# Altium schematic symbol library batteries.SchLib: 10 symbols
Pins are listed as number, name and electrical type; pins without a type are passive.

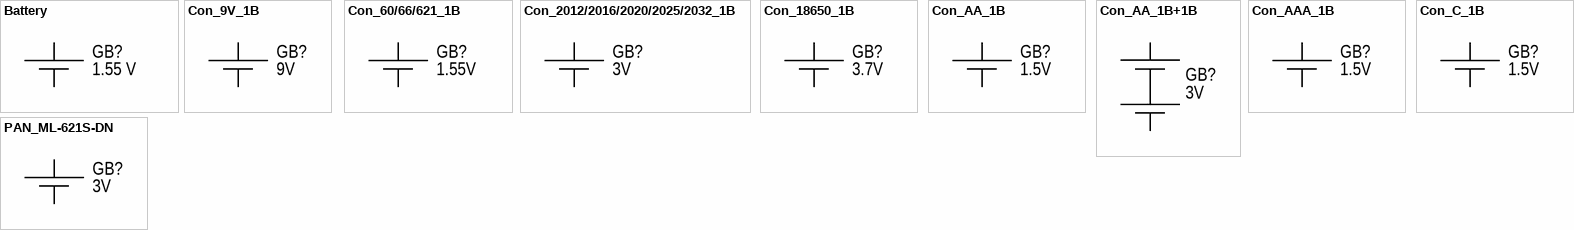
[diagram p0: symbols Battery to PAN_ML-621S-DN]

## Battery
designator GB?  VoltageMax: 1.55 V
Manufacturer: Seiko Instruments; ValueManufacturerPartNumber: Coin Cell Battery, 1.55 V, 23 mAh; PartNumber: SR621SW; TypeBattery: Coin Cell Battery; Capacity: 23 mAh; HelpURL: https://www.mouser.com/ProductDetail/Seiko-Instruments/SR621SW?qs=wUXugUrL1qzFQfG8sJtPVw%3D%3D
footprint BAT_18650 (18650, 12.5mm Diameter x 2mm  Height Lithium Coin Cells)
footprint BAT_CR1220 (CR1210, 12.5mm Diameter x 2mm  Height Lithium Coin Cells)
footprint BAT_CR2016 (CR2016, 20mm Diameter x 1.6mm  Height Lithium Coin Cells)
footprint BAT_CR2025 (CR2025, 20mm Diameter x 2.5mm  Height Lithium Coin Cells)
footprint BAT_CR2032 (CR2032, 20mm Diameter x 32mm  Height Lithium Coin Cells)
footprint BAT_SR60/V364 (SR60, 6.8mm Diameter x 2.2mm  Height Silver Oxide Buttun Cell Battery)

## Con_9V_1B
designator GB?  Voltage: 9V
Manufacturer: Keystone Electronics; ValueManufacturerPartNumber: Battery Holders 9V, 9V, 9V; PartNumber: 1294; TypeConnector: Battery Holders 9V; HelpURL: https://www.mouser.com/ProductDetail/Keystone-Electronics/1294?qs=sGAEpiMZZMvxqoKe%252BDjhrte%252BlrLaYtz%2Fsss5FZspgWI%3D; BatterySize: 9V
footprint MPD_BH9VPC (THD Battery Holder for 9V)
pins: 1 + (power), 2 - (power)

## Con_60/66/621_1B
designator GB?  Voltage: 1.55V
Manufacturer: Keystone Electronics; ValueManufacturerPartNumber: Battery Holders SR60, 1.55V, SR60; PartNumber: 2998; TypeConnector: Battery Holders SR60; BatterySize: SR60; HelpURL: https://www.mouser.com/ProductDetail/Keystone-Electronics/2998?qs=xAjc%252BIZFyb5TvOJRv3Vy6w%3D%3D
footprint KEYSTONE_2998 (SMD Battery Holder for SR60, SR66, SR621, LR621, MC621, V364, SC621, DR13H, D377, V13AT Coin Cells)
pins: 1 + (power), 2 - (power)

## Con_2012/2016/2020/2025/2032_1B
designator GB?  Voltage: 3V
Manufacturer: Keystone Electronics; ValueManufacturerPartNumber: Battery Holders CR2016, 3V, CR2016; PartNumber: 103; TypeConnector: Battery Holders CR2016; BatterySize: CR2016; HelpURL: https://www.mouser.com/ProductDetail/Keystone-Electronics/103?qs=Q3RoVmURDolsdXuDGYj49g%3D%3D
footprint KEYSTONE_103 (Battery Holder for 2016, 2020, 2025, 2032 Lithium Coin Cells)
footprint KEYSTONE_1065 (SMD Battery Holders for BR2012,CR2012,BR2016, CR2016, DL2016, BR2020, CL2020, BR2025, CR2025, DL2025, BR2032, CR2032, DL2032, ANSI 5000LC, IEC CR2016 Coin Cells)
footprint KEYSTONE_3000 (SMD Battery Holder for BR1216, CR1216, BR1220, CL1220, CR1220, BR1225 Coin Cells)
footprint RENATA_SMTU2032 (SMD Battery Holder for CR2032 Coin Cells)
pins: 1 + (power), 2 - (power)

## Con_18650_1B
designator GB?  Voltage: 3.7V
Manufacturer: Keystone Electronics; ValueManufacturerPartNumber: Battery Holders 18650, 3.7V, 18650; PartNumber: 1043; TypeConnector: Battery Holders 18650; BatterySize: 18650; HelpURL: https://www.mouser.com/ProductDetail/Keystone-Electronics/1043?qs=%2F7TOpeL5Mz6j%2FnxeOA1rsg%3D%3D
footprint KEYSTONE_1043 (THD Battery Holder for 18650 Cylindrical Batteties Size)
pins: 1 + (power), 2 - (power)

## Con_AA_1B
designator GB?  Voltage: 1.5V
Manufacturer: Keystone Electronics; ValueManufacturerPartNumber: Battery Holders AA, 1.5V, AA; PartNumber: 1028; TypeConnector: Battery Holders AA; BatterySize: AA; HelpURL: https://www.mouser.com/ProductDetail/Keystone-Electronics/1028?qs=TMDrOSIpnUdoTBwO9TubhA%3D%3D
footprint KEYSTONE_1028 (THD Battery Holder for AA, LR6, HR6, L91 Cylindrical Batteties Size)
footprint KEYSTONE_2460 (THD Battery Holder for AA, LR6, Cylindrical Batteties Size)
footprint MPD_BHAA-3 (THD Battery Holder 1 Cell AA)
pins: 1 + (power), 2 - (power)

## Con_AA_1B+1B
designator GB?  Voltage: 3V
Manufacturer: Keystone Electronics; ValueManufacturerPartNumber: Battery Holders AA, 3V, 2xAA; PartNumber: 2462; TypeConnector: Battery Holders AA; BatterySize: 2xAA; HelpURL: https://www.mouser.com/ProductDetail/Keystone-Electronics/2462?qs=3CbvriavsLChvFNADwDLZA%3D%3D
footprint KEYSTONE_2462 (THD Battery Holder for 2 Cell AA, LR6, HR6, L91 Cylindrical Batteties)
footprint MPD_BC2AAPC (THD Battery Holder for 2 Cell AA, LR6, HR6, L91 Cylindrical Batteties)
pins: 1 + (power), 2 - (power)

## Con_AAA_1B
designator GB?  Voltage: 1.5V
Manufacturer: Keystone Electronics; ValueManufacturerPartNumber: Battery Holders AAA, 1.5V, AAA; PartNumber: 2466; TypeConnector: Battery Holders AAA; BatterySize: AAA; HelpURL: https://www.mouser.com/ProductDetail/Keystone-Electronics/2466?qs=3CbvriavsLDs0LN6U2fYVA%3D%3D
footprint BULGIN_BX0034 (THD Battery Holder 1 Cell AAA)
footprint KEYSTONE_2466 (THD Battery Holder for AAA, LR03 Cylindrical Batteties Size)
pins: 1 + (power), 2 - (power)

## Con_C_1B
designator GB?  Voltage: 1.5V
Manufacturer: Keystone Electronics; ValueManufacturerPartNumber: Battery Holders C, 1.5V, C; PartNumber: 2224; TypeConnector: Battery Holders C; BatterySize: C; HelpURL: https://www.mouser.com/ProductDetail/Keystone-Electronics/2224?qs=l8Mz4RVwyfn6c0GV6Hw2pQ%3D%3D
footprint KEYSTONE_2224 (THD Battery Holder for 1 Cell C Size)
pins: 1 + (power), 2 - (power)

## PAN_ML-621S-DN
designator GB?  Voltage: 3V
Manufacturer: Panasonic; ValueManufacturerPartNumber: Coin Cell Battery ML621, 3V, ML621; PartNumber: ML-621S/DN; TypeConnector: Coin Cell Battery ML621; BatterySize: ML621; HelpURL: https://www.mouser.com/ProductDetail/Panasonic-Battery/ML-621S-DN?qs=1eQvB6Dk1vg5qrU2vcwlKQ%3D%3D
footprint PANASONIC_ML-621S-DN (6.8mm Diameter x 2.55mm Height Rechargeable 3V, 5mAh, Lithium Coin Cells, ML Series)
pins: 1 + (power), 2 - (power)